# Altium schematic symbol library Resistors.SchLib: 6 symbols
Pins are listed as number, name and electrical type; pins without a type are passive.

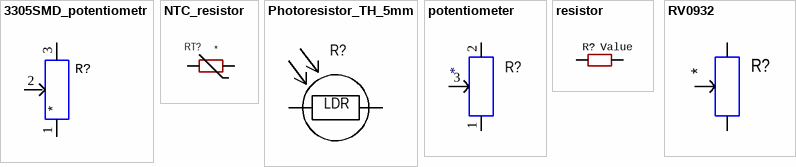
[diagram p0: symbols 3305SMD_potentiometr to RV0932]

## 3305SMD_potentiometr
designator R?
SMD potentiometer; Value: *; ComponentLink1Description: Image; ComponentLink1URL: %ALTIUM_LIBS%\03_Passive\01_Resistors\images\3305SMD.jpeg
footprint 3305SMD
pins: 1, 2, 3

## NTC_resistor
designator RT?
Tolerance: ±5%; Power: 0.125W; Package: *; Value: *
footprint Resistor_through_hole_2.54mm
pins: 1, 2

## Photoresistor_TH_5mm
designator R?, comment LDR
footprint Photoresistor_TH_5mm
pins: 1, 2

## potentiometer
designator R?
Value: *
footprint 3305SMD
pins: 1, 2, 3

## resistor
designator R?, comment Resistor  (value not drawn)
Tolerance: ±5%; Power: 0.125W; Package: *; Value: Value
footprint Resistor_through_hole_2.54mm
footprint 0402_RESISTOR (Resistor\Capasitor)
footprint 0603_RESISTOR (Resistor\Capasitor)
footprint 0805_RESISTOR (Resistor\Capasitor)
footprint 1206_RESISTOR (Resistor\Capasitor)
footprint 1210_RESISTOR (Resistor\Capasitor)
pins: 1, 2

## RV0932
designator R?
Througth hole potentiometer; Value: *
footprint potentiometr_footprint
footprint 3305SMD
pins: 1, 2, 3